# Altium schematic symbol library USBR-B-S-S-O-VT.SchLib: 1 symbol
Pins are listed as number, name and electrical type; pins without a type are passive.

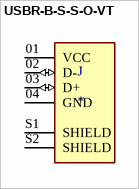
[diagram p0: symbol USBR-B-S-S-O-VT]

## USBR-B-S-S-O-VT
designator J
MF: Samtec; MP: USBR-B-S-S-O-VT; Package: None; Value: *; Availability: Unavailable; Price: None
footprint SAMTEC_USBR-B-S-S-O-VT
pins: 01 VCC (power), 02 D- (io), 03 D+ (io), 04 GND (power), S1 SHIELD, S2 SHIELD